# Altium footprint library Opamps.PcbLib: 2 footprints
Each footprint in its own frame and in the unit in brackets; x right, y up, seen from the top. Pads: shape width x height; smd on the part's side, far side on the other; paste and mask are expansions set on the pad; w line width, h text height; cw(c..) or ccw(c..) is an arc to the next point about the centre after c.
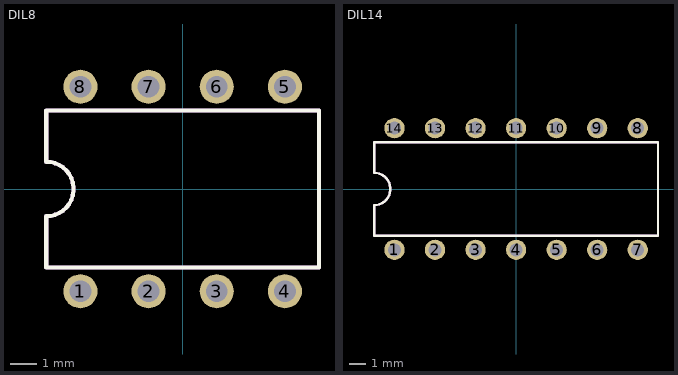
[diagram p0: the footprints below, top view; thin cyan lines are the x and y axes]

## DIL8 [mil]
pads (8):
  round 50 hole 32: 1(-150,-150) 2(-50,-150) 3(50,-150) 4(150,-150) 5(150,150) 6(50,150) 7(-50,150) 8(-150,150)
Top Overlay:
  lines w6: -200,-115 -200,-40 ccw(c-200,0) -200,40 -200,115 200,115 200,-115 -200,-115
Mechanical 2:
  lines w6: -200,-115 200,-115 200,115 -200,115 -200,40 cw(c-200,0) -200,-40 -200,-115
3D body "SW3DPS-DIP8-DEFAULT.STEP": height 335, standoff 65, extent -225,-155 225,155
3D body "DIL8_SOCKET.STEP": height 180.39, standoff -115.28, extent -200,-200 200,200

## DIL14 [mil]
pads (14):
  round 50 hole 32: 1(-300,-150) 2(-200,-150) 3(-100,-150) 4(0,-150) 5(100,-150) 6(200,-150) 7(300,-150) 8(300,150) 9(200,150) 10(100,150) 11(0,150) 12(-100,150) 13(-200,150) 14(-300,150)
Top Overlay:
  lines w6: -350,-115 350,-115 350,115 -350,115 -350,40 cw(c-350,0) -350,-40 -350,-115
Mechanical 2:
  lines w6: -350,-115 -350,-40 ccw(c-350,0) -350,40 -350,115 350,115 350,-115 -350,-115
3D body "DIL14_SOCKET.STEP": height 180.39, standoff -115.28, extent -350,-200 350,200
3D body "DIP14.STEP": height 319.45, standoff 44.65, extent -375,-156.96 375,158